# Altium footprint library PCB - CONNECTOR - MOLEX - MOLEX 5019515000.PcbLib: 1 footprints
Each footprint in its own frame and in the unit in brackets; x right, y up, seen from the top. Pads: shape width x height; smd on the part's side, far side on the other; paste and mask are expansions set on the pad; w line width, h text height; cw(c..) or ccw(c..) is an arc to the next point about the centre after c.
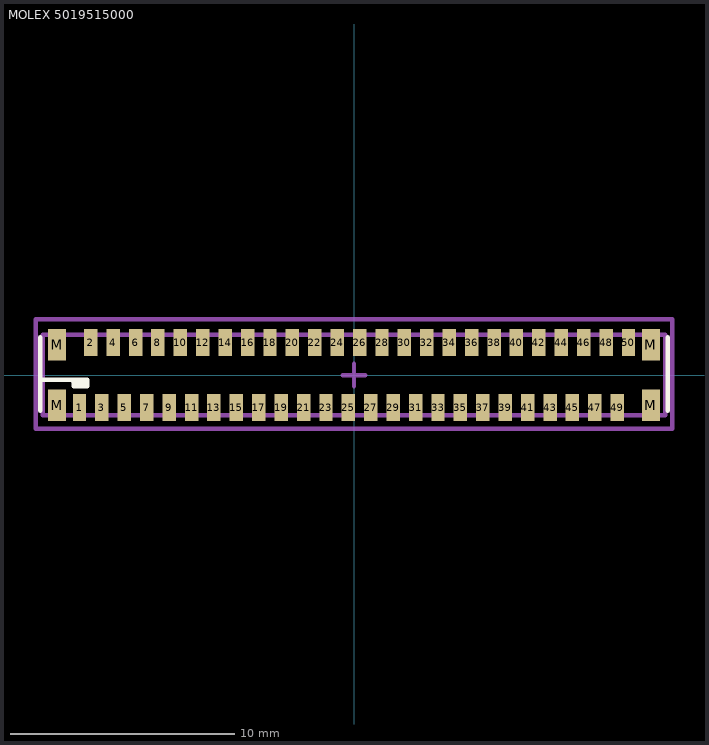
[diagram p0: the footprint, top view; thin cyan lines are the x and y axes]

## MOLEX 5019515000 [mm]
height 4.6
pads (54):
  rect 0.6x1.2 smd: 1(-12.25,-1.45) 2(-11.75,1.45) 3(-11.25,-1.45) 4(-10.75,1.45) 5(-10.25,-1.45) 6(-9.75,1.45) 7(-9.25,-1.45) 8(-8.75,1.45) 9(-8.25,-1.45) 10(-7.75,1.45) 11(-7.25,-1.45) 12(-6.75,1.45) 13(-6.25,-1.45) 14(-5.75,1.45) 15(-5.25,-1.45) 16(-4.75,1.45) 17(-4.25,-1.45) 18(-3.75,1.45) 19(-3.25,-1.45) 20(-2.75,1.45) 21(-2.25,-1.45) 22(-1.75,1.45) 23(-1.25,-1.45) 24(-0.75,1.45) 25(-0.25,-1.45) 26(0.25,1.45) 27(0.75,-1.45) 28(1.25,1.45) 29(1.75,-1.45) 30(2.25,1.45) 31(2.75,-1.45) 32(3.25,1.45) 33(3.75,-1.45) 34(4.25,1.45) 35(4.75,-1.45) 36(5.25,1.45) 37(5.75,-1.45) 38(6.25,1.45) 39(6.75,-1.45) 40(7.25,1.45) 41(7.75,-1.45) 42(8.25,1.45) 43(8.75,-1.45) 44(9.25,1.45) 45(9.75,-1.45) 46(10.25,1.45) 47(10.75,-1.45) 48(11.25,1.45) 49(11.75,-1.45) 50(12.25,1.45)
  rect 0.8x1.4 smd: M(-13.25,-1.35) M(-13.25,1.35) M(13.25,-1.35) M(13.25,1.35)
Top Overlay:
  rectangle: -12.5,-0.5 -11.9,-0.2
  lines w0.2: -14,-1.6 -14,1.7 ; -14,-0.2 -11.9,-0.2 -11.9,-0.5 -12.5,-0.5 -12.5,-0.35 ccw(c-12.65,-0.35) -12.65,-0.2 ; 14,-1.6 14,1.7
Top Assembly:
  lines w0.2: -0.5,0 0.5,0 ; 0,-0.5 0,0.5 ; -13.9,-1.8 13.9,-1.8 13.9,1.8 -13.9,1.8 -13.9,-1.8
Top Courtyard (Mech15):
  lines w0.2: -14.2,-2.4 -14.2,2.5 14.2,2.5 14.2,-2.4 -14.2,-2.4
3D body "Molex 5019515000.step": height 4.6, standoff 0, extent -13.9,-1.85 13.9,2.284